# EAGLE library part XC3S500E_CP132 (library xilinx)
xc3s500e_cp132 edit this description Auto generated by make-symbol-device-package-bsdl.ulp Rev. 29 Source: xc3s500e_cp132.bsd
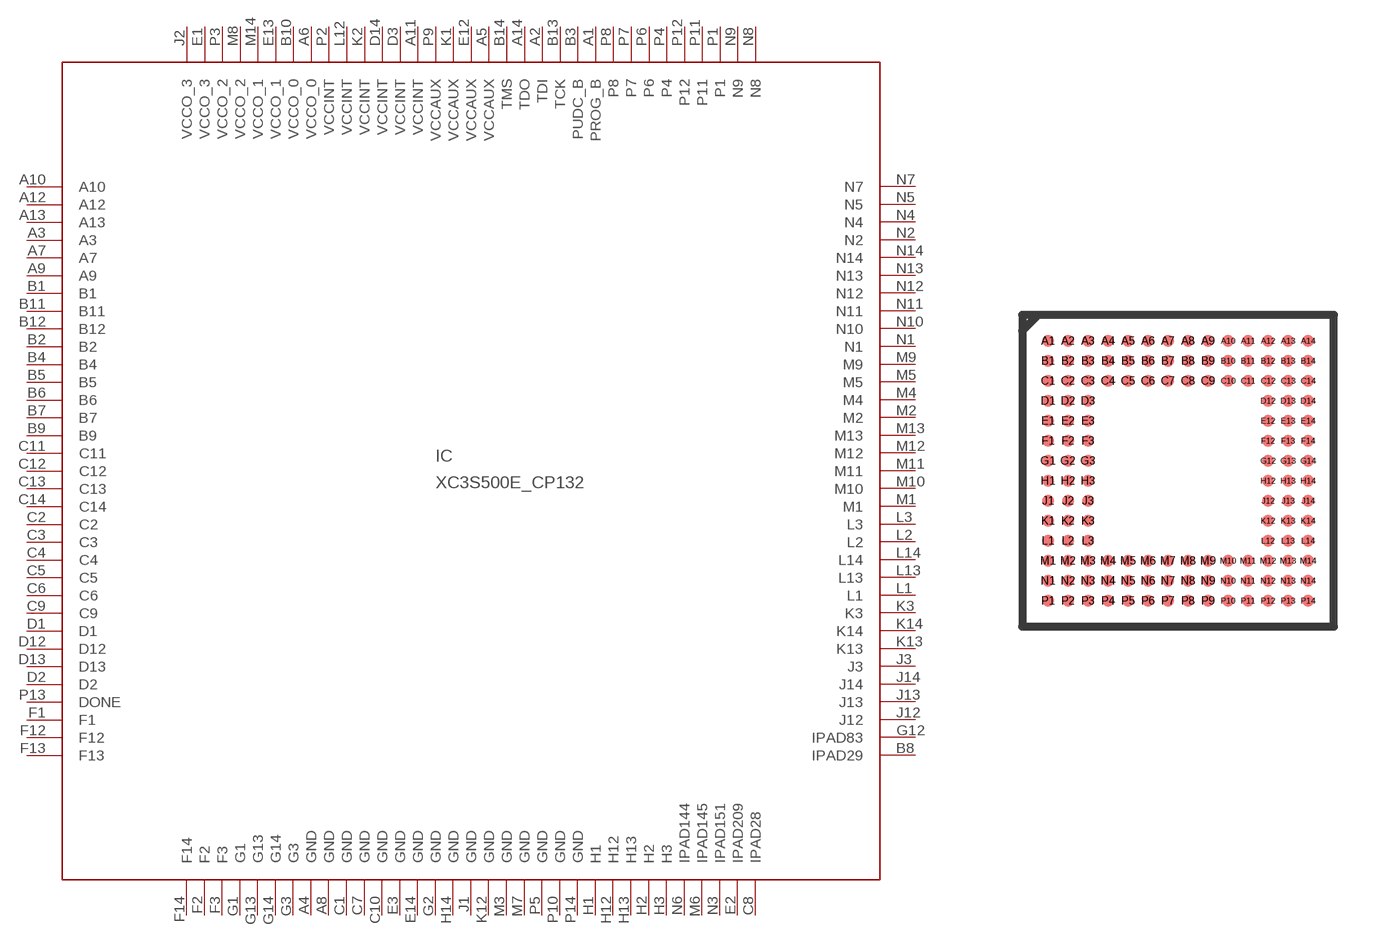
[diagram p2: symbol with the pads of CP132; footprint CP132]

Designator prefix IC

## XC3S500E_CP132  [CP132]
A1  PROG_B  in
A2  TDI  in
A3  A3
A4  GND  pwr
A5  VCCAUX  pwr
A6  VCCO_0  pwr
A7  A7
A8  GND  pwr
A9  A9
A10  A10
A11  VCCINT  pwr
A12  A12
A13  A13
A14  TDO  out
B1  B1
B2  B2
B3  PUDC_B  in
B4  B4
B5  B5
B6  B6
B7  B7
B8  IPAD29  in
B9  B9
B10  VCCO_0  pwr
B11  B11
B12  B12
B13  TCK  in
B14  TMS  in
C1  GND  pwr
C2  C2
C3  C3
C4  C4
C5  C5
C6  C6
C7  GND  pwr
C8  IPAD28  in
C9  C9
C10  GND  pwr
C11  C11
C12  C12
C13  C13
C14  C14
D1  D1
D2  D2
D3  VCCINT  pwr
D12  D12
D13  D13
D14  VCCINT  pwr
E1  VCCO_3  pwr
E2  IPAD209  in
E3  GND  pwr
E12  VCCAUX  pwr
E13  VCCO_1  pwr
E14  GND  pwr
F1  F1
F2  F2
F3  F3
F12  F12
F13  F13
F14  F14
G1  G1
G2  GND  pwr
G3  G3
G12  IPAD83  in
G13  G13
G14  G14
H1  H1
H2  H2
H3  H3
H12  H12
H13  H13
H14  GND  pwr
J1  GND  pwr
J2  VCCO_3  pwr
J3  J3
J12  J12
J13  J13
J14  J14
K1  VCCAUX  pwr
K2  VCCINT  pwr
K3  K3
K12  GND  pwr
K13  K13
K14  K14
L1  L1
L2  L2
L3  L3
L12  VCCINT  pwr
L13  L13
L14  L14
M1  M1
M2  M2
M3  GND  pwr
M4  M4
M5  M5
M6  IPAD145  in
M7  GND  pwr
M8  VCCO_2  pwr
M9  M9
M10  M10
M11  M11
M12  M12
M13  M13
M14  VCCO_1  pwr
N1  N1
N2  N2
N3  IPAD151  in
N4  N4
N5  N5
N6  IPAD144  in
N7  N7
N8  N8
N9  N9
N10  N10
N11  N11
N12  N12
N13  N13
N14  N14
P1  P1
P2  VCCINT  pwr
P3  VCCO_2  pwr
P4  P4
P5  GND  pwr
P6  P6
P7  P7
P8  P8
P9  VCCAUX  pwr
P10  GND  pwr
P11  P11
P12  P12
P13  DONE
P14  GND  pwr

## Footprint CP132 (pad centres in mm)
xc3s500e_cp132 edit this description Auto generated by make-symbol-device-package-bsdl.ulp Rev. 29 Source: xc3s500e_cp132.bsd
smd 0.3 x 0.3: A1 -3.25,3.25; A2 -2.75,3.25; A3 -2.25,3.25; A4 -1.75,3.25; A5 -1.25,3.25; A6 -0.75,3.25; A7 -0.25,3.25; A8 0.25,3.25; A9 0.75,3.25; A10 1.25,3.25; A11 1.75,3.25; A12 2.25,3.25; A13 2.75,3.25; A14 3.25,3.25; B1 -3.25,2.75; B2 -2.75,2.75; B3 -2.25,2.75; B4 -1.75,2.75; B5 -1.25,2.75; B6 -0.75,2.75; B7 -0.25,2.75; B8 0.25,2.75; B9 0.75,2.75; B10 1.25,2.75; B11 1.75,2.75; B12 2.25,2.75; B13 2.75,2.75; B14 3.25,2.75; C1 -3.25,2.25; C2 -2.75,2.25; C3 -2.25,2.25; C4 -1.75,2.25; C5 -1.25,2.25; C6 -0.75,2.25; C7 -0.25,2.25; C8 0.25,2.25; C9 0.75,2.25; C10 1.25,2.25; C11 1.75,2.25; C12 2.25,2.25; C13 2.75,2.25; C14 3.25,2.25; D1 -3.25,1.75; D2 -2.75,1.75; D3 -2.25,1.75; D12 2.25,1.75; D13 2.75,1.75; D14 3.25,1.75; E1 -3.25,1.25; E2 -2.75,1.25; E3 -2.25,1.25; E12 2.25,1.25; E13 2.75,1.25; E14 3.25,1.25; F1 -3.25,0.75; F2 -2.75,0.75; F3 -2.25,0.75; F12 2.25,0.75; F13 2.75,0.75; F14 3.25,0.75; G1 -3.25,0.25; G2 -2.75,0.25; G3 -2.25,0.25; G12 2.25,0.25; G13 2.75,0.25; G14 3.25,0.25; H1 -3.25,-0.25; H2 -2.75,-0.25; H3 -2.25,-0.25; H12 2.25,-0.25; H13 2.75,-0.25; H14 3.25,-0.25; J1 -3.25,-0.75; J2 -2.75,-0.75; J3 -2.25,-0.75; J12 2.25,-0.75; J13 2.75,-0.75; J14 3.25,-0.75; K1 -3.25,-1.25; K2 -2.75,-1.25; K3 -2.25,-1.25; K12 2.25,-1.25; K13 2.75,-1.25; K14 3.25,-1.25; L1 -3.25,-1.75; L2 -2.75,-1.75; L3 -2.25,-1.75; L12 2.25,-1.75; L13 2.75,-1.75; L14 3.25,-1.75; M1 -3.25,-2.25; M2 -2.75,-2.25; M3 -2.25,-2.25; M4 -1.75,-2.25; M5 -1.25,-2.25; M6 -0.75,-2.25; M7 -0.25,-2.25; M8 0.25,-2.25; M9 0.75,-2.25; M10 1.25,-2.25; M11 1.75,-2.25; M12 2.25,-2.25; M13 2.75,-2.25; M14 3.25,-2.25; N1 -3.25,-2.75; N2 -2.75,-2.75; N3 -2.25,-2.75; N4 -1.75,-2.75; N5 -1.25,-2.75; N6 -0.75,-2.75; N7 -0.25,-2.75; N8 0.25,-2.75; N9 0.75,-2.75; N10 1.25,-2.75; N11 1.75,-2.75; N12 2.25,-2.75; N13 2.75,-2.75; N14 3.25,-2.75; P1 -3.25,-3.25; P2 -2.75,-3.25; P3 -2.25,-3.25; P4 -1.75,-3.25; P5 -1.25,-3.25; P6 -0.75,-3.25; P7 -0.25,-3.25; P8 0.25,-3.25; P9 0.75,-3.25; P10 1.25,-3.25; P11 1.75,-3.25; P12 2.25,-3.25; P13 2.75,-3.25; P14 3.25,-3.25